# EAGLE library part COLIBRI-18PIN (library toradex)
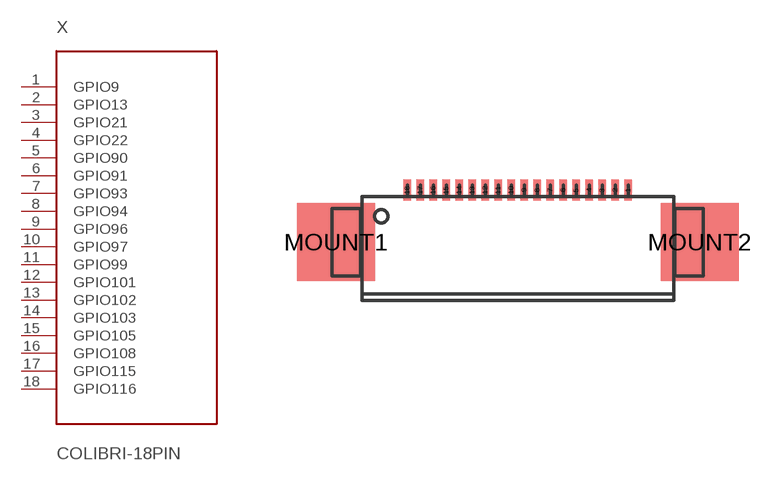
[diagram p2: symbol with the pads of 52784-1890; footprint 52784-1890]

Designator prefix X

## COLIBRI-18PIN  [52784-1890]
1  GPIO9
2  GPIO13
3  GPIO21
4  GPIO22
5  GPIO90
6  GPIO91
7  GPIO93
8  GPIO94
9  GPIO96
10  GPIO97
11  GPIO99
12  GPIO101
13  GPIO102
14  GPIO103
15  GPIO105
16  GPIO108
17  GPIO115
18  GPIO116

## Footprint 52784-1890 (pad centres in mm)
smd 0.3 x 0.8: 1 5.6,0.4; 2 5.1,0.4; 3 4.6,0.4; 4 4.1,0.4; 5 3.6,0.4; 6 3.1,0.4; 7 2.6,0.4; 8 2.1,0.4; 9 1.6,0.4; 10 1.1,0.4; 11 0.6,0.4; 12 0.1,0.4; 13 -0.4,0.4; 14 -0.9,0.4; 15 -1.4,0.4; 16 -1.9,0.4; 17 -2.4,0.4; 18 -2.9,0.4
smd 3 x 3: MOUNT1 -5.65,-1.6; MOUNT2 8.35,-1.6